# EAGLE library part STN1110-QFN28-6X6 (library 1zac)
OBD interpreter by STN
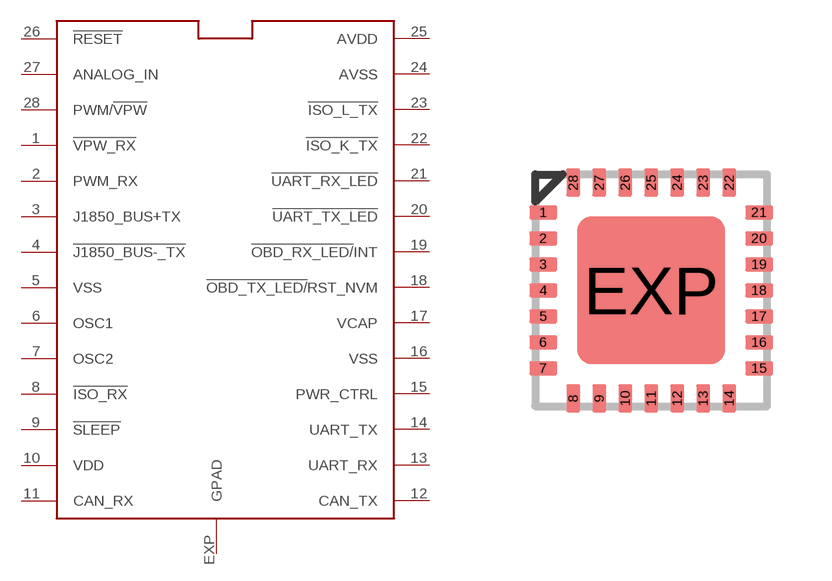
[diagram p16: symbol with the pads of STN1110-QFN28-6X6; footprint STN1110-QFN28-6X6]

Designator prefix -

## STN1110-QFN28-6X6  [STN1110-QFN28-6X6]
1  !VPW_RX
2  PWM_RX
3  J1850_BUS+TX
4  !J1850_BUS-_TX
5  VSS
6  OSC1
7  OSC2
8  !ISO_RX
9  !SLEEP
10  VDD
11  CAN_RX
12  CAN_TX
13  UART_RX
14  UART_TX
15  PWR_CTRL
16  VSS
17  VCAP
18  !OBD_TX_LED/!RST_NVM
19  !OBD_RX_LED/!INT
20  !UART_TX_LED
21  !UART_RX_LED
22  !ISO_K_TX
23  !ISO_L_TX
24  AVSS
25  AVDD
26  !RESET
27  ANALOG_IN
28  PWM/!VPW
EXP  GPAD  pwr

## Footprint STN1110-QFN28-6X6 (pad centres in mm)
smd 0.7 x 0.35: 1 -2.7,1.95; 2 -2.7,1.3; 3 -2.7,0.65; 4 -2.7,0; 5 -2.7,-0.65; 6 -2.7,-1.3; 7 -2.7,-1.95; 15 2.7,-1.95; 16 2.7,-1.3; 17 2.7,-0.65; 18 2.7,0; 19 2.7,0.65; 20 2.7,1.3; 21 2.7,1.95
smd 0.35 x 0.7: 8 -1.95,-2.7; 9 -1.3,-2.7; 10 -0.65,-2.7; 11 0,-2.7; 12 0.65,-2.7; 13 1.3,-2.7; 14 1.95,-2.7; 22 1.95,2.7; 23 1.3,2.7; 24 0.65,2.7; 25 0,2.7; 26 -0.65,2.7; 27 -1.3,2.7; 28 -1.95,2.7
smd 3.7 x 3.7: EXP 0,0